# Altium schematic symbol library 1-787082-8.SchLib: 2 symbols
Pins are listed as number, name and electrical type; pins without a type are passive.

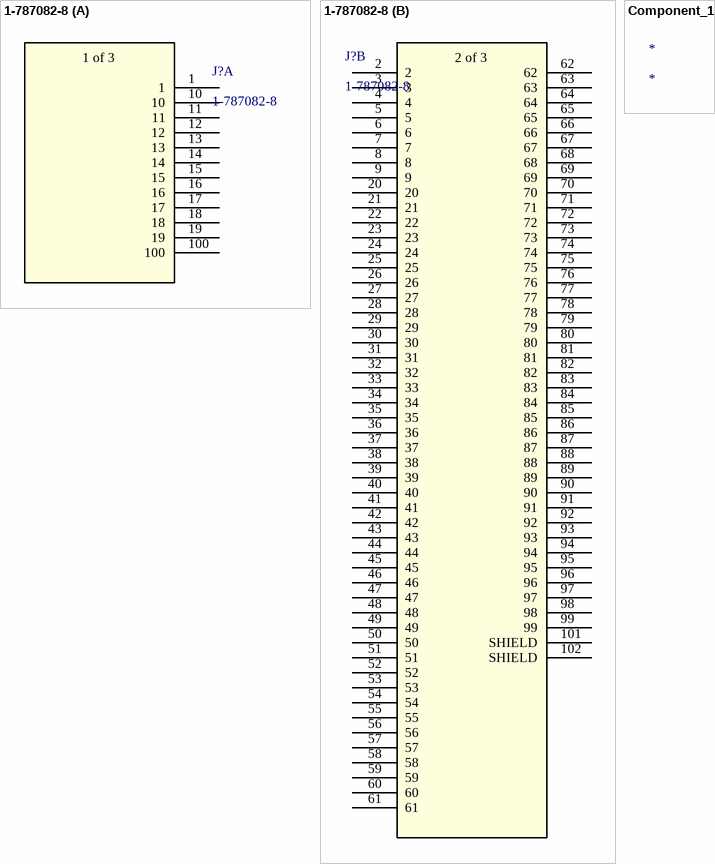
[diagram p0: symbols 1-787082-8 to Component_1]

## 1-787082-8
designator J?
No Description Available; Mfr_Name: TE Connectivity; Copyright: Copyright (C) 2022 Ultra Librarian. All rights reserved.; Manufacturer_Part_Number: 1-787082-8; Digi-Key_Part_Number_1: A35091-ND; RefDes: RefDes; Type: DEV
footprint CONN100_1-787082-8_TEC
part A pins: 1, 10, 11, 12, 13, 14, 15, 16, 17, 18, 19, 100
part B pins: 2, 3, 4, 5, 6, 7, 8, 9, 20, 21, 22, 23, 24, 25, 26, 27, 28, 29, 30, 31, 32, 33, 34, 35, 36, 37, 38, 39, 40, 41, 42, 43, 44, 45, 46, 47, 48, 49, 50, 51, 52, 53, 54, 55, 56, 57, 58, 59, 60, 61, 62, 63, 64, 65, 66, 67, 68, 69, 70, 71, 72, 73, 74, 75, 76, 77, 78, 79, 80, 81, 82, 83, 84, 85, 86, 87, 88, 89, 90, 91, 92, 93, 94, 95, 96, 97, 98, 99, 101 SHIELD, 102 SHIELD
part A text: 1 of 3
part B text: 2 of 3

## Component_1
designator *